# Altium footprint library E01-2G4M01S1B-V1.0.PcbLib: 2 footprints
Each footprint in its own frame and in the unit in brackets; x right, y up, seen from the top. Pads: shape width x height; smd on the part's side, far side on the other; paste and mask are expansions set on the pad; w line width, h text height; cw(c..) or ccw(c..) is an arc to the next point about the centre after c.
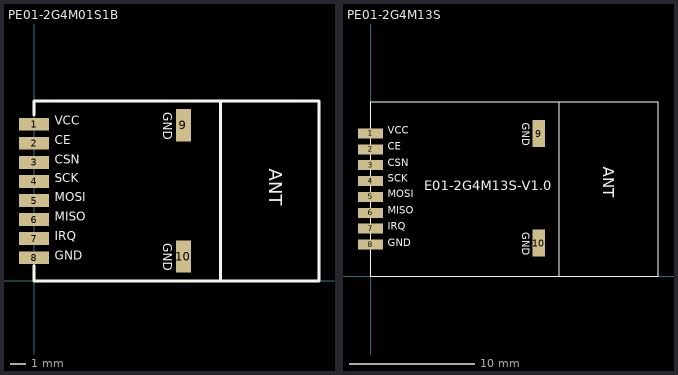
[diagram p0: the footprints below, top view; thin cyan lines are the x and y axes]

## PE01-2G4M01S1B [mm] "19*12-S"
pads (10):
  rect 2x0.85 smd: 1(0,10.445) 2(0,9.175) 3(0,7.905) 4(0,6.635) 5(0,5.365) 6(0,4.095) 7(0,2.825) 8(0,1.555)
  rect 1x2.15 smd: 9(9.95,10.375) 10(9.95,1.625)
Top Overlay:
  lines w0.2: 0,1.016 0,0 19,0 19,12 0,12 0,11.049 ; 12.446,0 12.446,12
  text "ANT" at 15.367,7.493 h1.5
  text "GND" at 1.391,1.227 h1
  text "IRQ" at 1.391,2.527 h1
  text "MISO" at 1.391,3.827 h1
  text "MOSI" at 1.391,5.127 h1
  text "SCK" at 1.397,6.366 h1
  text "CSN" at 1.391,7.627 h1
  text "CE" at 1.391,8.927 h1
  text "VCC" at 1.391,10.227 h1
  text "GND" at 8.426,11.264 h1
  text "GND" at 8.426,2.514 h1
Bottom Paste:
  region: 12.75,9.25

## PE01-2G4M13S [mm] "23*14mm-S"
pads (10):
  rect 2x0.8 smd: 1(0,11.445) 2(0,10.175) 3(0,8.905) 4(0,7.635) 5(0,6.365) 6(0,5.095) 7(0,3.825) 8(0,2.555)
  rect 1x2.15 smd: 9(13.462,11.43) 10(13.462,2.667)
Top Overlay:
  lines w0.1: 15.113,0 15.113,13.97 ; 0,0 23,0 23,14 0,14 0,0
  text "GND" at 11.938,3.556 h1
  text "GND" at 11.938,12.319 h1
  text "ANT" at 18.288,8.763 h1.5
  text "E01-2G4M13S-V1.0" at 4.318,6.604 h1.3
  text "GND" at 1.391,2.227 h1
  text "IRQ" at 1.391,3.527 h1
  text "MISO" at 1.391,4.827 h1
  text "MOSI" at 1.391,6.127 h1
  text "SCK" at 1.397,7.366 h1
  text "CSN" at 1.391,8.627 h1
  text "CE" at 1.391,9.927 h1
  text "VCC" at 1.391,11.227 h1